# Altium integrated library Infineon_Transistor_&_Diode.IntLib: 376 symbols (part 10 of 10)
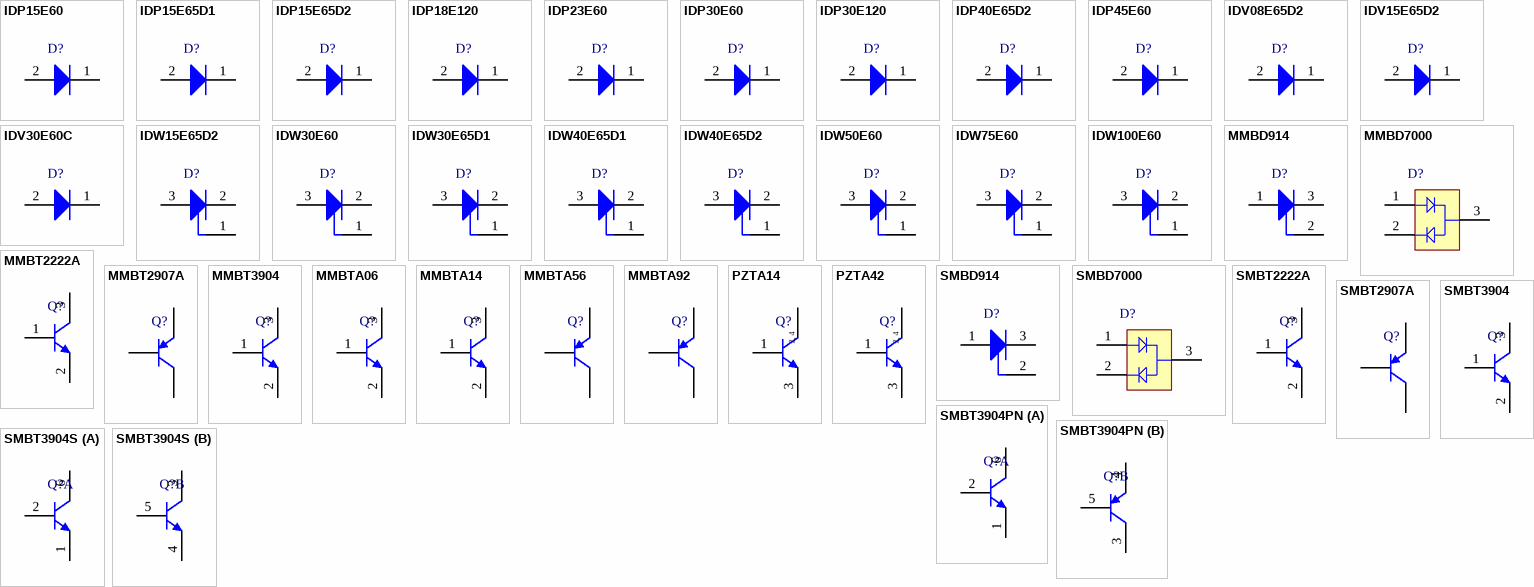
[diagram p19: symbols IDP15E60 to SMBT3904S]

## IDW15E65D2
designator D?
Rapid Switching Emitter Controlled Diode, -40 to 175 degC, PG-TO247-3-44, Tube, Green; Manufacturer: Infineon; PartNumber: IDW15E65D2; Green: TRUE; IF (typ): 15 A; IF,SM (max): 100 A; IR (max): 40 uA; Irrm (typ): 3.3 A; Ptot (max): 85.7 W; Qrr (typ): 0.07 nC; RthJC (max): 1.75 K/W; Trr (typ): 47 ns; VF (typ): 1.6 V; DatasheetVersion: Rev. 1.1; PackageVersion: Rev. 05, 07/2010; PackageReference: PG-TO-247-3-44_A; PackageDescription: 3-Pin Plastic (Green) Transistor Single Outline Package, Body 20.95 x 15.915 mm, Pitch 5.44 mm; Supplier 1: Newark; Supplier Part Number 1: 33X0393; Supplier 2: Farnell; Supplier Part Number 2: 2363270; Halogen-free: available; Packing: Tube; Mounting Technology: Through Hole; ComponentLink1Description: Manufacturer URL; ComponentLink1URL: http://www.infineon.com/; ComponentLink2Description: Datasheet; ComponentLink2URL: http://www.infineon.com/dgdl/DS_IDW15E65D2_1_1.pdf?folderId=db3a304314dca38901151224afae0c96&fileId=db3a30433d68e984013d691f02ea019f; ComponentLink3Description: Package Specification; ComponentLink3URL: http://www.infineon.com/dgdl/IDW50E60_Rev+1.2.pdf?folderId=db3a304314dca38901151224afae0c96&fileId=db3a30433cd75ebf013cf1ddd0fb255a
footprint INF-PG-TO-247-3-44_A (FM, 3-Leads, Body 15.915x5.02mm, Pitch 5.44mm)
pins: 1 NC, 2 K, 3 A

## IDW30E60
designator D?
Fast Switching Emitter Controlled Diode, -40 to 175 degC, PG-TO247-3-44, Tube, Green; Manufacturer: Infineon; PartNumber: IDW30E60; IF (max): 120 A; IF (typ): 75 A; IF,SM (max): 150 A; IR (max): 40 uA; Irrm (typ): 13 A; Ptot (max): 143 W; Qrr (typ): 1,200 nC; RthJC (max): 15 K/W; Trr (typ): 143 ns; VF (typ): 1.65 V; DatasheetVersion: Rev. 1.1; PackageVersion: Rev. 05, 07/2010; PackageReference: PG-TO-247-3-44_A; PackageDescription: 3-Pin Plastic (Green) Transistor Single Outline Package, Body 20.95 x 15.915 mm, Pitch 5.44 mm; Packing: Tube; Mounting Technology: Through Hole; ComponentLink1Description: Manufacturer URL; ComponentLink1URL: http://www.infineon.com/; ComponentLink2Description: Datasheet; ComponentLink2URL: http://www.infineon.com/dgdl/IDW30E60_1_11.pdf?folderId=db3a30431ddc9372011ed0010fda1bd3&fileId=db3a3043338c8ac80133abdec5bc2fe3; ComponentLink3Description: Package Specification; ComponentLink3URL: http://www.infineon.com/dgdl/IDW50E60_Rev+1.2.pdf?folderId=db3a304314dca38901151224afae0c96&fileId=db3a30433cd75ebf013cf1ddd0fb255a
footprint INF-PG-TO-247-3-44_A (FM, 3-Leads, Body 15.915x5.02mm, Pitch 5.44mm)
pins: 1 NC, 2 K, 3 A

## IDW30E65D1
designator D?
Rapid Switching Emitter Controlled Diode, -40 to 175 degC, PG-TO247-3, Tube, Green; Manufacturer: Infineon; PartNumber: IDW30E65D1; Green: TRUE; IF (typ): 30 A; IF,SM (max): 240 A; IR (max): 40 uA; Irrm (typ): 5.4 A; Ptot (max): 142 W; Qrr (typ): 0.45 uC; RthJC (max): 16 K/W; Trr (typ): 115 ns; VF (typ): 1.35 V; DatasheetVersion: Rev. 1.1; PackageVersion: Rev. 05, 07/2010; PackageReference: PG-TO-247-3-44_A; PackageDescription: 3-Pin Plastic (Green) Transistor Single Outline Package, Body 20.95 x 15.915 mm, Pitch 5.44 mm; Supplier 1: Newark; Supplier Part Number 1: 33X0394; Supplier 2: Farnell; Supplier Part Number 2: 2363271; Halogen-free: available; Packing: Tube; Mounting Technology: Through Hole; ComponentLink1Description: Manufacturer URL; ComponentLink1URL: http://www.infineon.com/; ComponentLink2Description: Datasheet; ComponentLink2URL: http://www.infineon.com/dgdl/DS_IDW30E65D1_1_1.pdf?folderId=db3a304314dca38901151224afae0c96&fileId=db3a30433d68e984013d6929d1da01cc; ComponentLink3Description: Package Specification; ComponentLink3URL: http://www.infineon.com/dgdl/IDW50E60_Rev+1.2.pdf?folderId=db3a304314dca38901151224afae0c96&fileId=db3a30433cd75ebf013cf1ddd0fb255a
footprint INF-PG-TO-247-3-44_A (FM, 3-Leads, Body 15.915x5.02mm, Pitch 5.44mm)
pins: 1 NC, 2 K, 3 A

## IDW40E65D1
designator D?
Rapid Switching Emitter Controlled Diode, -40 to 175 degC, PG-TO247-3, Tube, Green; Manufacturer: Infineon; PartNumber: IDW40E65D1; Green: TRUE; IF (typ): 40 A; IF,SM (max): 320 A; IR (max): 40 uA; Irrm (typ): 6.9 A; Ptot (max): 179 W; Qrr (typ): 0.49 uC; RthJC (max): 0.84 K/W; Trr (typ): 129 ns; VF (typ): 1.35 V; DatasheetVersion: Rev. 1.1; PackageVersion: Rev. 05, 07/2010; PackageReference: PG-TO-247-3-44_A; PackageDescription: 3-Pin Plastic (Green) Transistor Single Outline Package, Body 20.95 x 15.915 mm, Pitch 5.44 mm; Supplier 1: Newark; Supplier Part Number 1: 33X0395; Supplier 2: Farnell; Supplier Part Number 2: 2363272; Halogen-free: available; Packing: Tube; Mounting Technology: Through Hole; ComponentLink1Description: Manufacturer URL; ComponentLink1URL: http://www.infineon.com/; ComponentLink2Description: Datasheet; ComponentLink2URL: http://www.infineon.com/dgdl/IDW40E65D1_1_1.pdf?folderId=db3a304314dca38901151224afae0c96&fileId=db3a30433d68e984013d693991d30215; ComponentLink3Description: Package Specification; ComponentLink3URL: http://www.infineon.com/dgdl/IDW50E60_Rev+1.2.pdf?folderId=db3a304314dca38901151224afae0c96&fileId=db3a30433cd75ebf013cf1ddd0fb255a
footprint INF-PG-TO-247-3-44_A (FM, 3-Leads, Body 15.915x5.02mm, Pitch 5.44mm)
pins: 1 NC, 2 K, 3 A

## IDW40E65D2
designator D?
Rapid Switching Emitter Controlled Diode, -40 to 175 degC, PG-TO247-3, Tube, Green; Manufacturer: Infineon; PartNumber: IDW40E65D2; Green: TRUE; IF (typ): 40 A; IF,SM (max): 320 A; IR (max): 40 uA; Irrm (typ): 2.9 A; Ptot (max): 180 W; Qrr (typ): 0.13 uC; RthJC (max): 0.84 K/W; Trr (typ): 75 ns; VF (typ): 1.6 V; DatasheetVersion: Rev. 1.1; PackageVersion: Rev. 05, 07/2010; PackageReference: PG-TO-247-3-44_A; PackageDescription: 3-Pin Plastic (Green) Transistor Single Outline Package, Body 20.95 x 15.915 mm, Pitch 5.44 mm; Supplier 1: Newark; Supplier Part Number 1: 33X0396; Supplier 2: Farnell; Supplier Part Number 2: 2363273; Halogen-free: TRUE; Packing: Tube; Mounting Technology: Through Hole; ComponentLink1Description: Manufacturer URL; ComponentLink1URL: http://www.infineon.com/; ComponentLink2Description: Datasheet; ComponentLink2URL: http://www.infineon.com/dgdl/DS_IDW40E65D2_1_1.pdf?folderId=db3a30431ddc9372011ed0010fda1bd3&fileId=db3a30433d68e984013d8226e10d7547; ComponentLink3Description: Package Specification; ComponentLink3URL: http://www.infineon.com/dgdl/IDW50E60_Rev+1.2.pdf?folderId=db3a304314dca38901151224afae0c96&fileId=db3a30433cd75ebf013cf1ddd0fb255a
footprint INF-PG-TO-247-3-44_A (FM, 3-Leads, Body 15.915x5.02mm, Pitch 5.44mm)
pins: 1 NC, 2 K, 3 A

## IDW50E60
designator D?
Fast Switching Emitter Controlled Diode, -40 to 175 degC, PG-TO247-3-44, Tube, Green; Manufacturer: Infineon; PartNumber: IDW50E60; Green: TRUE; IF (max): 80 A; IF (typ): 50 A; IF,SM (max): 240 A; IR (max): 40 uA; Irrm (typ): 30 A; Ptot (max): 187 W; Qrr (typ): 1,500 nC; RthJC (max): 0.8 K/W; Trr (typ): 115 ns; VF (typ): 1.65 V; DatasheetVersion: Rev. 1.2; PackageVersion: Rev. 05, 07/2010; PackageReference: PG-TO-247-3-44_A; PackageDescription: 3-Pin Plastic (Green) Transistor Single Outline Package, Body 20.95 x 15.915 mm, Pitch 5.44 mm; Halogen-free: available; Packing: Tube; Mounting Technology: Through Hole; ComponentLink1Description: Manufacturer URL; ComponentLink1URL: http://www.infineon.com/; ComponentLink2Description: Datasheet; ComponentLink2URL: http://www.infineon.com/dgdl/IDW50E60_Rev+1.2.pdf?folderId=db3a304314dca38901151224afae0c96&fileId=db3a30433cd75ebf013cf1ddd0fb255a; ComponentLink3Description: Package Specification; ComponentLink3URL: http://www.infineon.com/dgdl/IDW50E60_Rev+1.2.pdf?folderId=db3a304314dca38901151224afae0c96&fileId=db3a30433cd75ebf013cf1ddd0fb255a
footprint INF-PG-TO-247-3-44_A (FM, 3-Leads, Body 15.915x5.02mm, Pitch 5.44mm)
pins: 1 NC, 2 K, 3 A

## IDW75E60
designator D?
Ultra Soft Diode, -55 to 175 degC, PG-TO247-3-44, Tube, Green; Manufacturer: Infineon; PartNumber: IDW75E60; Green: TRUE; IF (max): 120 A; IF (typ): 75 A; IF,SM (max): 220 A; IR (max): 40 uA; Ptot (max): 300 W; Qrr (typ): 2,400 nC 3,600 nC; RthJC (max): 0.5 K/W; Trr (typ): 121 ns; VF (typ): 1.65 V; DatasheetVersion: Rev. 2.1; PackageVersion: Rev. 05, 07/2010; PackageReference: PG-TO-247-3-44_A; PackageDescription: 3-Pin Plastic (Green) Transistor Single Outline Package, Body 20.95 x 15.915 mm, Pitch 5.44 mm; Supplier 1: Mouser; Supplier Part Number 1: 726-IDW75E60; Supplier 2: Newark; Supplier Part Number 2: 47W3450; Supplier 3: Farnell; Supplier Part Number 3: 2212801; Supplier 4: Digi-Key; Supplier Part Number 4: IDW75E60-ND; Halogen-free: available; Packing: Tube; Mounting Technology: Through Hole; ComponentLink1Description: Manufacturer URL; ComponentLink1URL: http://www.infineon.com/; ComponentLink2Description: Datasheet; ComponentLink2URL: http://www.infineon.com/dgdl/IDW75E60_V2_1.pdf?folderId=db3a304412b407950112b408e8c90004&fileId=db3a304412b407950112b438de4f6bbe; ComponentLink3Description: Package Specification; ComponentLink3URL: http://www.infineon.com/dgdl/IDW50E60_Rev+1.2.pdf?folderId=db3a304314dca38901151224afae0c96&fileId=db3a30433cd75ebf013cf1ddd0fb255a
footprint INF-PG-TO-247-3-44_A (FM, 3-Leads, Body 15.915x5.02mm, Pitch 5.44mm)
pins: 1 NC, 2 K, 3 A

## IDW100E60
designator D?
Fast Switching EmCon Diode, -55 to 175 degC, PG-TO247-3, Tube, Green; Manufacturer: Infineon; PartNumber: IDW100E60; Green: TRUE; IF (max): 150 A; IF (typ): 100 A; IF,SM (max): 400 A; IR (max): 40 uA; Ptot (max): 375 W; Qrr (typ): 3.6 nC; RthJC (max): 0.4 K/W; Trr (typ): 120 ns; VF (typ): 1.65 V; DatasheetVersion: Rev. 2.1; PackageVersion: Rev. 05, 07/2010; PackageReference: PG-TO-247-3-44_A; PackageDescription: 3-Pin Plastic (Green) Transistor Single Outline Package, Body 20.95 x 15.915 mm, Pitch 5.44 mm; Supplier 1: Mouser; Supplier Part Number 1: 726-IDW100E60; Supplier 2: Newark; Supplier Part Number 2: 47W3449; Supplier 3: Farnell; Supplier Part Number 3: 2212800; Supplier 4: Digi-Key; Supplier Part Number 4: IDW100E60-ND; Halogen-free: available; Packing: Tube; Mounting Technology: Through Hole; ComponentLink1Description: Manufacturer URL; ComponentLink1URL: http://www.infineon.com/; ComponentLink2Description: Datasheet; ComponentLink2URL: http://www.infineon.com/dgdl/IDW100E60_V2_1.pdf?folderId=db3a304412b407950112b408e8c90004&fileId=db3a304412b407950112b438da286bba; ComponentLink3Description: Package Specification; ComponentLink3URL: http://www.infineon.com/dgdl/IDW50E60_Rev+1.2.pdf?folderId=db3a304314dca38901151224afae0c96&fileId=db3a30433cd75ebf013cf1ddd0fb255a
footprint INF-PG-TO-247-3-44_A (FM, 3-Leads, Body 15.915x5.02mm, Pitch 5.44mm)
pins: 1 NC, 2 K, 3 A

## MMBD914
designator D?
Silicon Switching Diode, SOT23, Reel, Green; Manufacturer: Infineon; PartNumber: MMBD914; Configuration: Single; Green: TRUE; IF (max): 250 mA; IR (max): 100 nA; trr (max): 4 ns; VBR (min): 100 V; VF (max): 1.25 V; PackageVersion: Apr-08; PackageReference: SOT23; PackageDescription: 3-Pin Small Outline Transistor Package, 1.3 x 2.9 mm Body, 0.95 mm Pitch; Supplier 1: Arrow; Supplier Part Number 1: qMR7U2_eq23JCB9iwVhRmjLeiIlNHyfc18orTTBRNvA; VR (max): 100 V; Mounting Technology: Surface Mount; ComponentLink1Description: Manufacturer URL; ComponentLink1URL: http://www.infineon.com/; ComponentLink2Description: Datasheet; ComponentLink2URL: http://www.infineon.com/dgdl/smbd914_mmbd914series.pdf?folderId=db3a30431400ef6801141b5844e103ea&fileId=db3a30431400ef6801141c419bed0444; ComponentLink3Description: Package Specification; ComponentLink3URL: http://www.infineon.com/dgdl/SOT23-Package_Overview.pdf?folderId=db3a30431936bc4b0119532290053c66&fileId=db3a30431936bc4b0119533468123c85
footprint INF-SOT23_N (SOT23, 3-Leads, Body 2.9x1.3 mm, Pitch 0.95 mm, IPC Medium Density)
footprint INF-SOT23_L (SOT23, 3-Leads, Body 2.9x1.3 mm, Pitch 0.95 mm, IPC High Density)
footprint INF-SOT23_M (SOT23, 3-Leads, Body 2.9x1.3 mm, Pitch 0.95 mm, IPC Low Density)
pins: 1 A, 2 NC, 3 K

## MMBD7000
designator D?
Silicon Switching Diode Array, SOT23, Reel, Green; Manufacturer: Infineon; PartNumber: MMBD7000; Configuration: Dual; Green: TRUE; IF (max): 200 mA; IR (max): 500 nA; trr (max): 4 ns; VBR (min): 100 V; VF (max): 1.25 V; PackageVersion: Apr-08; PackageReference: SOT23; PackageDescription: 3-Pin Small Outline Transistor Package, 1.3 x 2.9 mm Body, 0.95 mm Pitch; VR (max): 100 V; Mounting Technology: Surface Mount; ComponentLink1Description: Manufacturer URL; ComponentLink1URL: http://www.infineon.com/; ComponentLink2Description: Datasheet; ComponentLink2URL: http://www.infineon.com/dgdl/smbd7000_mmbd7000series.pdf?folderId=db3a30431400ef6801141b5844e103ea&fileId=db3a30431400ef6801141c43b6f30446; ComponentLink3Description: Package Specification; ComponentLink3URL: http://www.infineon.com/dgdl/SOT23-Package_Overview.pdf?folderId=db3a30431936bc4b0119532290053c66&fileId=db3a30431936bc4b0119533468123c85
footprint INF-SOT23_N (SOT23, 3-Leads, Body 2.9x1.3 mm, Pitch 0.95 mm, IPC Medium Density)
footprint INF-SOT23_L (SOT23, 3-Leads, Body 2.9x1.3 mm, Pitch 0.95 mm, IPC High Density)
footprint INF-SOT23_M (SOT23, 3-Leads, Body 2.9x1.3 mm, Pitch 0.95 mm, IPC Low Density)
pins: 1 A1, 2 K2, 3 C

## MMBT2222A
designator Q?
NPN Silicon Switching Transistor, 40 V VCEO, 600 mA IC, SOT23, Reel, Green; Manufacturer: Infineon; PartNumber: MMBT2222A; Green: TRUE; IC: 150 mA; IC (max): 600 mA; ICBO (max): 10 nA; VCBO (max): 75 V; VCE: 10 V; VCEO (max): 40 V; VEBO (max): 6 V; PackageVersion: Apr-08; PackageReference: SOT23; PackageDescription: 3-Pin Small Outline Transistor Package, 1.3 x 2.9 mm Body, 0.95 mm Pitch; Packing: Reel; Polarity: NPN; VCE (max): 10 V; Mounting Technology: Surface Mount; ComponentLink1Description: Manufacturer URL; ComponentLink1URL: http://www.infineon.com/; ComponentLink2Description: Datasheet; ComponentLink2URL: http://www.infineon.com/dgdl/smbt2222a_mmbt2222a.pdf?folderId=db3a30431441fb5d011445fab851018e&fileId=db3a30431441fb5d011445fbaff0018f; ComponentLink3Description: Package Specification; ComponentLink3URL: http://www.infineon.com/dgdl/SOT23-Package_Overview.pdf?folderId=db3a30431936bc4b0119532290053c66&fileId=db3a30431936bc4b0119533468123c85
footprint INF-SOT23_N (SOT23, 3-Leads, Body 2.9x1.3 mm, Pitch 0.95 mm, IPC Medium Density)
footprint INF-SOT23_L (SOT23, 3-Leads, Body 2.9x1.3 mm, Pitch 0.95 mm, IPC High Density)
footprint INF-SOT23_M (SOT23, 3-Leads, Body 2.9x1.3 mm, Pitch 0.95 mm, IPC Low Density)
pins: 1 B, 2 E, 3 C

## MMBT2907A
designator Q?
PNP Silicon Switching Transistor, 60 V VCEO, 600 mA IC, SOT23, Reel, Green; Manufacturer: Infineon; PartNumber: MMBT2907A; Green: TRUE; IC: 150 mA; IC (max): 600 mA; ICBO (max): 10 nA; VCBO (max): 60 V; VCE: 10 V; VEBO (max): 5 V; PackageVersion: Apr-08; PackageReference: SOT23; PackageDescription: 3-Pin Small Outline Transistor Package, 1.3 x 2.9 mm Body, 0.95 mm Pitch; Packing: Reel; Polarity: PNP; VCE (max): 10 V; VCEO (max): 60 V; Mounting Technology: Surface Mount; ComponentLink1Description: Manufacturer URL; ComponentLink1URL: http://www.infineon.com/; ComponentLink2Description: Datasheet; ComponentLink2URL: http://www.infineon.com/dgdl/smbt2907a.pdf?folderId=db3a30431441fb5d011445fab851018e&fileId=db3a30431441fb5d011445fe084a0190; ComponentLink3Description: Package Specification; ComponentLink3URL: http://www.infineon.com/dgdl/SOT23-Package_Overview.pdf?folderId=db3a30431936bc4b0119532290053c66&fileId=db3a30431936bc4b0119533468123c85
footprint INF-SOT23_N (SOT23, 3-Leads, Body 2.9x1.3 mm, Pitch 0.95 mm, IPC Medium Density)
footprint INF-SOT23_L (SOT23, 3-Leads, Body 2.9x1.3 mm, Pitch 0.95 mm, IPC High Density)
footprint INF-SOT23_M (SOT23, 3-Leads, Body 2.9x1.3 mm, Pitch 0.95 mm, IPC Low Density)
pins: 1 B, 2 E, 3 C

## MMBT3904
designator Q?
NPN Silicon Switching Transistor, 40 V VCEO, 200 mA IC, SOT23, Reel, Green; Manufacturer: Infineon; PartNumber: MMBT3904; Green: TRUE; IC: 10 mA; IC (max): 200 mA; ICBO (max): 50 nA; VCBO (max): 60 V; VCE: 1 V; VCEO (max): 40 V; VEBO (max): 6 V; PackageVersion: Apr-08; PackageReference: SOT23; PackageDescription: 3-Pin Small Outline Transistor Package, 1.3 x 2.9 mm Body, 0.95 mm Pitch; Packing: Reel; Polarity: NPN; VCE (max): 1 V; Mounting Technology: Surface Mount; ComponentLink1Description: Manufacturer URL; ComponentLink1URL: http://www.infineon.com/; ComponentLink2Description: Datasheet; ComponentLink2URL: http://www.infineon.com/dgdl/smbt3904series_mmbt3904.pdf?folderId=db3a30431441fb5d011445fab851018e&fileId=db3a30431441fb5d0114460005c10191; ComponentLink3Description: Package Specification; ComponentLink3URL: http://www.infineon.com/dgdl/SOT23-Package_Overview.pdf?folderId=db3a30431936bc4b0119532290053c66&fileId=db3a30431936bc4b0119533468123c85
footprint INF-SOT23_N (SOT23, 3-Leads, Body 2.9x1.3 mm, Pitch 0.95 mm, IPC Medium Density)
footprint INF-SOT23_L (SOT23, 3-Leads, Body 2.9x1.3 mm, Pitch 0.95 mm, IPC High Density)
footprint INF-SOT23_M (SOT23, 3-Leads, Body 2.9x1.3 mm, Pitch 0.95 mm, IPC Low Density)
pins: 1 B, 2 E, 3 C

## MMBTA06
designator Q?
NPN Silicon AF Transistor, 80 V VCEO, 500 mA IC, SOT23, Reel, Green; Manufacturer: Infineon; PartNumber: MMBTA06; fT (typ): 100 MHz; Green: TRUE; IBM (max): 200 mA; IC: 100 mA; IC (max): 500 mA; ICBO (max): 100 nA; ICM (max): 1,000 mA; Ptot (max): 330 mW; VCBO (max): 80 V; VCE: 1 V; VEBO (max): 4 V; PackageVersion: Apr-08; PackageReference: SOT23; PackageDescription: 3-Pin Small Outline Transistor Package, 1.3 x 2.9 mm Body, 0.95 mm Pitch; Packing: Reel; Polarity: NPN; VCEO (max): 80 V; Mounting Technology: Surface Mount; ComponentLink1Description: Manufacturer URL; ComponentLink1URL: http://www.infineon.com/; ComponentLink2Description: Datasheet; ComponentLink2URL: http://www.infineon.com/dgdl/smbta06_mmbta06.pdf?folderId=db3a304314dca389011545f4eb561884&fileId=db3a304314dca3890115478ecca71a2d; ComponentLink3Description: Package Specification; ComponentLink3URL: http://www.infineon.com/dgdl/SOT23-Package_Overview.pdf?folderId=db3a30431936bc4b0119532290053c66&fileId=db3a30431936bc4b0119533468123c85
footprint INF-SOT23_N (SOT23, 3-Leads, Body 2.9x1.3 mm, Pitch 0.95 mm, IPC Medium Density)
footprint INF-SOT23_L (SOT23, 3-Leads, Body 2.9x1.3 mm, Pitch 0.95 mm, IPC High Density)
footprint INF-SOT23_M (SOT23, 3-Leads, Body 2.9x1.3 mm, Pitch 0.95 mm, IPC Low Density)
pins: 1 B, 2 E, 3 C

## MMBTA14
designator Q?
NPN Silicon Darlington Transistor, 30 V VCEO, 300 mA IC, SOT23, Reel, Green; Manufacturer: Infineon; PartNumber: MMBTA14; fT (typ): 125 MHz; Green: TRUE; hFE (min): 10000; IC: 100 mA; IC (max): 300 mA; ICBO (max): 10 uA; ICM (max): 500 mA; VCBO (max): 30 V; VCE: 5 V; VEBO (max): 10 V; PackageVersion: Apr-08; PackageReference: SOT23; PackageDescription: 3-Pin Small Outline Transistor Package, 1.3 x 2.9 mm Body, 0.95 mm Pitch; Packing: Reel; Polarity: NPN; VCEO (max): 30 V; Mounting Technology: Surface Mount; ComponentLink1Description: Manufacturer URL; ComponentLink1URL: http://www.infineon.com/; ComponentLink2Description: Datasheet; ComponentLink2URL: http://www.infineon.com/dgdl/smbta14_mmbta14.pdf?folderId=db3a30431441fb5d011445c30f210183&fileId=db3a30431441fb5d011445ef0201018c; ComponentLink3Description: Package Specification; ComponentLink3URL: http://www.infineon.com/dgdl/SOT23-Package_Overview.pdf?folderId=db3a30431936bc4b0119532290053c66&fileId=db3a30431936bc4b0119533468123c85
footprint INF-SOT23_N (SOT23, 3-Leads, Body 2.9x1.3 mm, Pitch 0.95 mm, IPC Medium Density)
footprint INF-SOT23_L (SOT23, 3-Leads, Body 2.9x1.3 mm, Pitch 0.95 mm, IPC High Density)
footprint INF-SOT23_M (SOT23, 3-Leads, Body 2.9x1.3 mm, Pitch 0.95 mm, IPC Low Density)
pins: 1 B, 2 E, 3 C

## MMBTA56
designator Q?
PNP Silicon AF Transistor, 80 V VCEO, 500 mA IC, SOT23, Reel, Green; Manufacturer: Infineon; PartNumber: MMBTA56; fT (typ): 100 MHz; Green: TRUE; IBM (max): 200 mA; IC: 100 mA; IC (max): 500 mA; ICBO (max): 100 nA; ICM (max): 1,000 mA; Ptot (max): 330 mW; VCBO (max): 80 V; VCE: 1 V; VEBO (max): 4 V; PackageVersion: Apr-08; PackageReference: SOT23; PackageDescription: 3-Pin Small Outline Transistor Package, 1.3 x 2.9 mm Body, 0.95 mm Pitch; Packing: Reel; Polarity: PNP; VCEO (max): 80 V; Mounting Technology: Surface Mount; ComponentLink1Description: Manufacturer URL; ComponentLink1URL: http://www.infineon.com/; ComponentLink2Description: Datasheet; ComponentLink2URL: http://www.infineon.com/dgdl/smbta56_mmbta56.pdf?folderId=db3a304314dca389011545f4eb561884&fileId=db3a304314dca38901155fad71671d8c; ComponentLink3Description: Package Specification; ComponentLink3URL: http://www.infineon.com/dgdl/SOT23-Package_Overview.pdf?folderId=db3a30431936bc4b0119532290053c66&fileId=db3a30431936bc4b0119533468123c85
footprint INF-SOT23_N (SOT23, 3-Leads, Body 2.9x1.3 mm, Pitch 0.95 mm, IPC Medium Density)
footprint INF-SOT23_L (SOT23, 3-Leads, Body 2.9x1.3 mm, Pitch 0.95 mm, IPC High Density)
footprint INF-SOT23_M (SOT23, 3-Leads, Body 2.9x1.3 mm, Pitch 0.95 mm, IPC Low Density)
pins: 1 B, 2 E, 3 C

## MMBTA92
designator Q?
PNP Silicon High-Voltage Transistor, 300 V VCEO, 500 mA IC, SOT23, Reel, Green; Manufacturer: Infineon; PartNumber: MMBTA92; fT (typ): 50 MHz; Green: TRUE; hFE (min): 40; IC: 30 mA; IC (max): 500 mA; ICBO (max): 100 nA; VCBO (max): 300 V; VCE: 10 V; VEBO (max): 5 V; PackageVersion: Apr-08; PackageReference: SOT23; PackageDescription: 3-Pin Small Outline Transistor Package, 1.3 x 2.9 mm Body, 0.95 mm Pitch; Packing: Reel; Polarity: PNP; VCE (max): 10 V; VCEO (max): 300 V; Mounting Technology: Surface Mount; ComponentLink1Description: Manufacturer URL; ComponentLink1URL: http://www.infineon.com/; ComponentLink2Description: Datasheet; ComponentLink2URL: http://www.infineon.com/dgdl/smbta92-mmbta92.pdf?folderId=db3a30431441fb5d011449af3ad90232&fileId=db3a30431441fb5d011449c5cd03023b; ComponentLink3Description: Package Specification; ComponentLink3URL: http://www.infineon.com/dgdl/SOT23-Package_Overview.pdf?folderId=db3a30431936bc4b0119532290053c66&fileId=db3a30431936bc4b0119533468123c85
footprint INF-SOT23_N (SOT23, 3-Leads, Body 2.9x1.3 mm, Pitch 0.95 mm, IPC Medium Density)
footprint INF-SOT23_L (SOT23, 3-Leads, Body 2.9x1.3 mm, Pitch 0.95 mm, IPC High Density)
footprint INF-SOT23_M (SOT23, 3-Leads, Body 2.9x1.3 mm, Pitch 0.95 mm, IPC Low Density)
pins: 1 B, 2 E, 3 C

## PZTA14
designator Q?
NPN Silicon Darlington Transistor, 30 V VCEO, 300 mA IC, SOT223, Reel, Green; Manufacturer: Infineon; PartNumber: PZTA14; fT (typ): 125 MHz; Green: TRUE; hFE (min): 10000; IC: 100 mA; IC (max): 300 mA; ICBO (max): 10 uA; ICM (max): 500 mA; VCBO (max): 30 V; VCE: 5 V; VEBO (max): 10 V; PackageVersion: Apr-08; PackageReference: SOT223 (SC-73); PackageDescription: 4-Pin Small Outline Transistor Package, 6.5 x 3.5 mm Body, 2.3 mm Pitch; Packing: Reel; Polarity: NPN; VCEO (max): 30 V; Mounting Technology: Surface Mount; ComponentLink1Description: Manufacturer URL; ComponentLink1URL: http://www.infineon.com/; ComponentLink2Description: Datasheet; ComponentLink2URL: http://www.infineon.com/dgdl/pzta14.pdf?folderId=db3a30431441fb5d011445c30f210183&fileId=db3a30431441fb5d011445e89099018b; ComponentLink3Description: Package Specification; ComponentLink3URL: http://www.infineon.com/dgdl/SOT223-Package_Overview.pdf?folderId=db3a30431936bc4b0119530470b03c3d&fileId=db3a30431936bc4b0119531d40b93c5c
footprint INF-SOT223_SC-73_N (SOT223, 4-Leads, Body 6.5x3.5mm, Pitch 2.3mm, IPC Medium Density)
footprint INF-SOT223_SC-73_L (SOT223, 4-Leads, Body 6.5x3.5mm, Pitch 2.3mm, IPC High Density)
footprint INF-SOT223_SC-73_M (SOT223, 4-Leads, Body 6.5x3.5mm, Pitch 2.3mm, IPC Low Density)
pins: 1 B, 2 C, 3 E, 4 C
text: 2, 4

## PZTA42
designator Q?
NPN Silicon High-Voltage Transistor, 300 V VCEO, 500 mA IC, SOT223, Reel, Green; Manufacturer: Infineon; PartNumber: PZTA42; fT (typ): 70 MHz; Green: TRUE; hFE (min): 25; IC: 500 mA; ICBO (max): 100 nA; VCBO (max): 300 V; VCE: 10 V; VEBO (max): 6 V; PackageVersion: Apr-08; PackageReference: SOT223 (SC-73); PackageDescription: 4-Pin Small Outline Transistor Package, 6.5 x 3.5 mm Body, 2.3 mm Pitch; IC (max): 500 mA; Packing: Reel; Polarity: NPN; VCEO (max): 300 V; Mounting Technology: Surface Mount; ComponentLink1Description: Manufacturer URL; ComponentLink1URL: http://www.infineon.com/; ComponentLink2Description: Datasheet; ComponentLink2URL: http://www.infineon.com/dgdl/pzta42.pdf?folderId=db3a30431441fb5d011449af3ad90232&fileId=db3a304314dca38901156a63271f218b; ComponentLink3Description: Package Specification; ComponentLink3URL: http://www.infineon.com/dgdl/SOT223-Package_Overview.pdf?folderId=db3a30431936bc4b0119530470b03c3d&fileId=db3a30431936bc4b0119531d40b93c5c
footprint INF-SOT223_SC-73_N (SOT223, 4-Leads, Body 6.5x3.5mm, Pitch 2.3mm, IPC Medium Density)
footprint INF-SOT223_SC-73_L (SOT223, 4-Leads, Body 6.5x3.5mm, Pitch 2.3mm, IPC High Density)
footprint INF-SOT223_SC-73_M (SOT223, 4-Leads, Body 6.5x3.5mm, Pitch 2.3mm, IPC Low Density)
pins: 1 B, 2 C, 3 E, 4 C
text: 2, 4

## SMBD914
designator D?
Silicon Switching Diode, SOT23, Reel, Green; Manufacturer: Infineon; PartNumber: SMBD914; Configuration: Single; Green: TRUE; IF (max): 250 mA; IR (max): 100 nA; trr (max): 4 ns; VBR (min): 100 V; VF (max): 1.25 V; PackageVersion: Apr-08; PackageReference: SOT23; PackageDescription: 3-Pin Small Outline Transistor Package, 1.3 x 2.9 mm Body, 0.95 mm Pitch; VR (max): 100 V; Mounting Technology: Surface Mount; ComponentLink1Description: Manufacturer URL; ComponentLink1URL: http://www.infineon.com/; ComponentLink2Description: Datasheet; ComponentLink2URL: http://www.infineon.com/dgdl/smbd914_mmbd914series.pdf?folderId=db3a30431400ef6801141b5844e103ea&fileId=db3a30431400ef6801141c419bed0444; ComponentLink3Description: Package Specification; ComponentLink3URL: http://www.infineon.com/dgdl/SOT23-Package_Overview.pdf?folderId=db3a30431936bc4b0119532290053c66&fileId=db3a30431936bc4b0119533468123c85
footprint INF-SOT23_N (SOT23, 3-Leads, Body 2.9x1.3 mm, Pitch 0.95 mm, IPC Medium Density)
footprint INF-SOT23_L (SOT23, 3-Leads, Body 2.9x1.3 mm, Pitch 0.95 mm, IPC High Density)
footprint INF-SOT23_M (SOT23, 3-Leads, Body 2.9x1.3 mm, Pitch 0.95 mm, IPC Low Density)
pins: 1 A, 2 NC, 3 K

## SMBD7000
designator D?
Silicon Switching Diode Array, SOT23, Reel, Green; Manufacturer: Infineon; PartNumber: SMBD7000; Configuration: Dual; Green: TRUE; IF (max): 200 mA; IR (max): 500 nA; trr (max): 4 ns; VBR (min): 100 V; VF (max): 1.25 V; PackageVersion: Apr-08; PackageReference: SOT23; PackageDescription: 3-Pin Small Outline Transistor Package, 1.3 x 2.9 mm Body, 0.95 mm Pitch; VR (max): 100 V; Mounting Technology: Surface Mount; ComponentLink1Description: Manufacturer URL; ComponentLink1URL: http://www.infineon.com/; ComponentLink2Description: Datasheet; ComponentLink2URL: http://www.infineon.com/dgdl/smbd7000_mmbd7000series.pdf?folderId=db3a30431400ef6801141b5844e103ea&fileId=db3a30431400ef6801141c43b6f30446; ComponentLink3Description: Package Specification; ComponentLink3URL: http://www.infineon.com/dgdl/SOT23-Package_Overview.pdf?folderId=db3a30431936bc4b0119532290053c66&fileId=db3a30431936bc4b0119533468123c85
footprint INF-SOT23_N (SOT23, 3-Leads, Body 2.9x1.3 mm, Pitch 0.95 mm, IPC Medium Density)
footprint INF-SOT23_L (SOT23, 3-Leads, Body 2.9x1.3 mm, Pitch 0.95 mm, IPC High Density)
footprint INF-SOT23_M (SOT23, 3-Leads, Body 2.9x1.3 mm, Pitch 0.95 mm, IPC Low Density)
pins: 1 A1, 2 K2, 3 C

## SMBT2222A
designator Q?
NPN Silicon Switching Transistor, 40 V VCEO, 600 mA IC, SOT23, Reel, Green; Manufacturer: Infineon; PartNumber: SMBT2222A; Green: TRUE; IC: 150 mA; IC (max): 600 mA; ICBO (max): 10 nA; VCBO (max): 75 V; VCE: 10 V; VCEO (max): 40 V; VEBO (max): 6 V; PackageVersion: Apr-08; PackageReference: SOT23; PackageDescription: 3-Pin Small Outline Transistor Package, 1.3 x 2.9 mm Body, 0.95 mm Pitch; Supplier 1: Newark; Supplier Part Number 1: 97K9947; Supplier 2: Farnell; Supplier Part Number 2: 1056537RL; Supplier 3: Farnell; Supplier Part Number 3: 1056537; Packing: Reel; Polarity: NPN; VCE (max): 10 V; Mounting Technology: Surface Mount; ComponentLink1Description: Manufacturer URL; ComponentLink1URL: http://www.infineon.com/; ComponentLink2Description: Datasheet; ComponentLink2URL: http://www.infineon.com/dgdl/smbt2222a_mmbt2222a.pdf?folderId=db3a30431441fb5d011445fab851018e&fileId=db3a30431441fb5d011445fbaff0018f; ComponentLink3Description: Package Specification; ComponentLink3URL: http://www.infineon.com/dgdl/SOT23-Package_Overview.pdf?folderId=db3a30431936bc4b0119532290053c66&fileId=db3a30431936bc4b0119533468123c85
footprint INF-SOT23_N (SOT23, 3-Leads, Body 2.9x1.3 mm, Pitch 0.95 mm, IPC Medium Density)
footprint INF-SOT23_L (SOT23, 3-Leads, Body 2.9x1.3 mm, Pitch 0.95 mm, IPC High Density)
footprint INF-SOT23_M (SOT23, 3-Leads, Body 2.9x1.3 mm, Pitch 0.95 mm, IPC Low Density)
pins: 1 B, 2 E, 3 C

## SMBT2907A
designator Q?
PNP Silicon Switching Transistor, 60 V VCEO, 600 mA IC, SOT23, Reel, Green; Manufacturer: Infineon; PartNumber: SMBT2907A; Green: TRUE; IC: 150 mA; IC (max): 600 mA; ICBO (max): 10 nA; VCBO (max): 60 V; VCE: 10 V; VEBO (max): 5 V; PackageVersion: Apr-08; PackageReference: SOT23; PackageDescription: 3-Pin Small Outline Transistor Package, 1.3 x 2.9 mm Body, 0.95 mm Pitch; Supplier 1: Newark; Supplier Part Number 1: 97K9948; Supplier 2: Farnell; Supplier Part Number 2: 1056538; Supplier 3: Farnell; Supplier Part Number 3: 1056538RL; Packing: Reel; Polarity: PNP; VCE (max): 10 V; VCEO (max): 60 V; Mounting Technology: Surface Mount; ComponentLink1Description: Manufacturer URL; ComponentLink1URL: http://www.infineon.com/; ComponentLink2Description: Datasheet; ComponentLink2URL: http://www.infineon.com/dgdl/smbt2907a.pdf?folderId=db3a30431441fb5d011445fab851018e&fileId=db3a30431441fb5d011445fe084a0190; ComponentLink3Description: Package Specification; ComponentLink3URL: http://www.infineon.com/dgdl/SOT23-Package_Overview.pdf?folderId=db3a30431936bc4b0119532290053c66&fileId=db3a30431936bc4b0119533468123c85
footprint INF-SOT23_N (SOT23, 3-Leads, Body 2.9x1.3 mm, Pitch 0.95 mm, IPC Medium Density)
footprint INF-SOT23_L (SOT23, 3-Leads, Body 2.9x1.3 mm, Pitch 0.95 mm, IPC High Density)
footprint INF-SOT23_M (SOT23, 3-Leads, Body 2.9x1.3 mm, Pitch 0.95 mm, IPC Low Density)
pins: 1 B, 2 E, 3 C

## SMBT3904
designator Q?
NPN Silicon Switching Transistor, 40 V VCEO, 200 mA IC, SOT23, Reel, Green; Manufacturer: Infineon; PartNumber: SMBT3904; Green: TRUE; IC: 10 mA; IC (max): 200 mA; ICBO (max): 50 nA; VCBO (max): 60 V; VCE: 1 V; VCEO (max): 40 V; VEBO (max): 6 V; PackageVersion: Apr-08; PackageReference: SOT23; PackageDescription: 3-Pin Small Outline Transistor Package, 1.3 x 2.9 mm Body, 0.95 mm Pitch; Supplier 1: Newark; Supplier Part Number 1: 97K9949; Supplier 2: Farnell; Supplier Part Number 2: 1056539; Supplier 3: Farnell; Supplier Part Number 3: 1056539RL; Packing: Reel; Polarity: NPN; VCE (max): 1 V; Mounting Technology: Surface Mount; ComponentLink1Description: Manufacturer URL; ComponentLink1URL: http://www.infineon.com/; ComponentLink2Description: Datasheet; ComponentLink2URL: http://www.infineon.com/dgdl/smbt3904series_mmbt3904.pdf?folderId=db3a30431441fb5d011445fab851018e&fileId=db3a30431441fb5d0114460005c10191; ComponentLink3Description: Package Specification; ComponentLink3URL: http://www.infineon.com/dgdl/SOT23-Package_Overview.pdf?folderId=db3a30431936bc4b0119532290053c66&fileId=db3a30431936bc4b0119533468123c85
footprint INF-SOT23_N (SOT23, 3-Leads, Body 2.9x1.3 mm, Pitch 0.95 mm, IPC Medium Density)
footprint INF-SOT23_L (SOT23, 3-Leads, Body 2.9x1.3 mm, Pitch 0.95 mm, IPC High Density)
footprint INF-SOT23_M (SOT23, 3-Leads, Body 2.9x1.3 mm, Pitch 0.95 mm, IPC Low Density)
pins: 1 B, 2 E, 3 C

## SMBT3904PN
designator Q?
NPN / PNP Silicon Switching Transistor Array, 40 V VCEO, 200 mA IC, SOT363, Reel, Green; Manufacturer: Infineon; PartNumber: SMBT3904PN; Green: TRUE; IC: 10 mA; IC (max): 200 mA; ICBO (max): 50 nA; VCBO (max): 40 V; VCE: 1 V; VEBO (max): 5 V; PackageReference: SOT363; PackageDescription: 6-Pin Small Outline Transistor Package, 1.25 x 2 mm Body; Supplier 1: Mouser; Supplier Part Number 1: N/A; Halogen-free: TRUE; Packing: Reel; Polarity: NPN/PNP; VCE (max): 1 V; VCEO (max): 40 V; Mounting Technology: Surface Mount; ComponentLink1Description: Manufacturer URL; ComponentLink1URL: http://www.infineon.com/; ComponentLink2Description: Datasheet; ComponentLink2URL: http://www.infineon.com/dgdl/smbt3904pn_smbt3904upn.pdf?folderId=db3a30431441fb5d011445fab851018e&fileId=db3a30431441fb5d0114460a24930193; ComponentLink3Description: Package Specification; ComponentLink3URL: http://www.infineon.com/dgdl/SOT363-Package_Overview.pdf?folderId=db3a30431936bc4b01195360bd8f3cdc&fileId=db3a30431936bc4b0119536b62bf3cf5
footprint INF-SOT363_V (SOT23, 6-Leads, Body 2x1.25 mm, Pitch 0.65 mm)
part A pins: 1 E1, 2 B1, 6 C1
part B pins: 3 C2, 4 E2, 5 B2

## SMBT3904S
designator Q?
NPN Silicon Switching Transistor, 40 V VCEO, 200 mA IC, SOT363, Reel, Green; Manufacturer: Infineon; PartNumber: SMBT3904S; Green: TRUE; IC: 10 mA; IC (max): 200 mA; ICBO (max): 50 nA; VCBO (max): 60 V; VCE: 1 V; VCEO (max): 40 V; VEBO (max): 6 V; PackageReference: SOT363; PackageDescription: 6-Pin Small Outline Transistor Package, 1.25 x 2 mm Body; Supplier 1: Mouser; Supplier Part Number 1: N/A; Halogen-free: TRUE; Packing: Reel; Polarity: NPN; Mounting Technology: Surface Mount; ComponentLink1Description: Manufacturer URL; ComponentLink1URL: http://www.infineon.com/; ComponentLink2Description: Datasheet; ComponentLink2URL: http://www.infineon.com/dgdl/smbt3904series_mmbt3904.pdf?folderId=db3a30431441fb5d011445fab851018e&fileId=db3a30431441fb5d0114460005c10191; ComponentLink3Description: Package Specification; ComponentLink3URL: http://www.infineon.com/dgdl/SOT363-Package_Overview.pdf?folderId=db3a30431936bc4b01195360bd8f3cdc&fileId=db3a30431936bc4b0119536b62bf3cf5
footprint INF-SOT363_V (SOT23, 6-Leads, Body 2x1.25 mm, Pitch 0.65 mm)
part A pins: 1 E1, 2 B1, 6 C1
part B pins: 3 C2, 4 E2, 5 B2

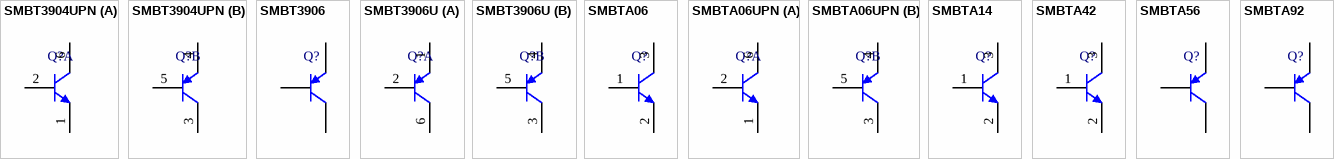
[diagram p10: symbols SMBT3904UPN to SMBTA92]

## SMBT3904UPN
designator Q?
NPN / PNP Silicon Switching Transistor Array, 40 V VCEO, 200 mA IC, SC74, Reel, Green; Manufacturer: Infineon; PartNumber: SMBT3904UPN; Green: TRUE; IC: 10 mA; IC (max): 200 mA; ICBO (max): 50 nA; VCBO (max): 40 V; VCE: 1 V; VEBO (max): 5 V; PackageVersion: Apr-08; PackageReference: SC74; PackageDescription: 6-Pin Semiconductor Package, 2.9 x 1.6 mm Body, 0.95 mm Pitch; Supplier 1: Mouser; Supplier Part Number 1: N/A; Packing: Reel; Polarity: NPN/PNP; VCEO (max): 40 V; Mounting Technology: Surface Mount; ComponentLink1Description: Manufacturer URL; ComponentLink1URL: http://www.infineon.com/; ComponentLink2Description: Datasheet; ComponentLink2URL: http://www.infineon.com/dgdl/smbt3904pn_smbt3904upn.pdf?folderId=db3a30431441fb5d011445fab851018e&fileId=db3a30431441fb5d0114460a24930193; ComponentLink3Description: Package Specification; ComponentLink3URL: http://www.infineon.com/dgdl/SC74-Package_Overview.pdf?folderId=db3a30431936bc4b01194dec844f40d9&fileId=db3a30431936bc4b01195175d46e3ab3
footprint INF-SC74_N (SOT23, 6-Leads, Body 2.9x1.6mm, Pitch 0.95mm, IPC Medium Density)
footprint INF-SC74_L (SOT23, 6-Leads, Body 2.9x1.6mm, Pitch 0.95mm, IPC High Density)
footprint INF-SC74_M (SOT23, 6-Leads, Body 2.9x1.6mm, Pitch 0.95mm, IPC Low Density)
part A pins: 1 E1, 2 B1, 6 C1
part B pins: 3 C2, 4 E2, 5 B2

## SMBT3906
designator Q?
PNP Silicon Switching Transistor, 40 V VCEO, 200 mA IC, SOT23, Reel, Green; Manufacturer: Infineon; PartNumber: SMBT3906; Green: TRUE; IC: 10 mA; IC (max): 200 mA; ICBO (max): 50 nA; VCBO (max): 40 V; VCE: 1 V; VEBO (max): 6 V; PackageVersion: Apr-08; PackageReference: SOT23; PackageDescription: 3-Pin Small Outline Transistor Package, 1.3 x 2.9 mm Body, 0.95 mm Pitch; Supplier 1: Mouser; Supplier Part Number 1: N/A; Supplier 2: Farnell; Supplier Part Number 2: 1056540RL; Packing: Reel; Polarity: PNP; VCE (max): 1 V; VCEO (max): 40 V; Mounting Technology: Surface Mount; ComponentLink1Description: Manufacturer URL; ComponentLink1URL: http://www.infineon.com/; ComponentLink2Description: Datasheet; ComponentLink2URL: http://www.infineon.com/dgdl/smbt3906_mmbt3906series.pdf?folderId=db3a30431441fb5d011445fab851018e&fileId=db3a30431441fb5d01144604610f0192; ComponentLink3Description: Package Specification; ComponentLink3URL: http://www.infineon.com/dgdl/SOT23-Package_Overview.pdf?folderId=db3a30431936bc4b0119532290053c66&fileId=db3a30431936bc4b0119533468123c85
footprint INF-SOT23_N (SOT23, 3-Leads, Body 2.9x1.3 mm, Pitch 0.95 mm, IPC Medium Density)
footprint INF-SOT23_L (SOT23, 3-Leads, Body 2.9x1.3 mm, Pitch 0.95 mm, IPC High Density)
footprint INF-SOT23_M (SOT23, 3-Leads, Body 2.9x1.3 mm, Pitch 0.95 mm, IPC Low Density)
pins: 1 B, 2 E, 3 C

## SMBT3906U
designator Q?
PNP Silicon Switching Transistor, 40 V VCEO, 200 mA IC, SC74, Reel, Green; Manufacturer: Infineon; PartNumber: SMBT3906U; Green: TRUE; IC: 10 mA; IC (max): 200 mA; ICBO (max): 50 nA; VCBO (max): 40 V; VCE: 1 V; VEBO (max): 6 V; PackageVersion: Apr-08; PackageReference: SC74; PackageDescription: 6-Pin Semiconductor Package, 2.9 x 1.6 mm Body, 0.95 mm Pitch; Supplier 1: Mouser; Supplier Part Number 1: N/A; Packing: Reel; Polarity: PNP; VCEO (max): 40 V; Mounting Technology: Surface Mount; ComponentLink1Description: Manufacturer URL; ComponentLink1URL: http://www.infineon.com/; ComponentLink2Description: Datasheet; ComponentLink2URL: http://www.infineon.com/dgdl/smbt3906_mmbt3906series.pdf?folderId=db3a30431441fb5d011445fab851018e&fileId=db3a30431441fb5d01144604610f0192; ComponentLink3Description: Package Specification; ComponentLink3URL: http://www.infineon.com/dgdl/SC74-Package_Overview.pdf?folderId=db3a30431936bc4b01194dec844f40d9&fileId=db3a30431936bc4b01195175d46e3ab3
footprint INF-SC74_N (SOT23, 6-Leads, Body 2.9x1.6mm, Pitch 0.95mm, IPC Medium Density)
footprint INF-SC74_L (SOT23, 6-Leads, Body 2.9x1.6mm, Pitch 0.95mm, IPC High Density)
footprint INF-SC74_M (SOT23, 6-Leads, Body 2.9x1.6mm, Pitch 0.95mm, IPC Low Density)
part A pins: 1 E1, 2 B1, 6 C1
part B pins: 3 C2, 4 E2, 5 B2

## SMBTA06
designator Q?
NPN Silicon AF Transistor, 80 V VCEO, 500 mA IC, SOT23, Reel, Green; Manufacturer: Infineon; PartNumber: SMBTA06; fT (typ): 100 MHz; Green: TRUE; IBM (max): 200 mA; IC: 100 mA; IC (max): 500 mA; ICBO (max): 100 nA; ICM (max): 1,000 mA; Ptot (max): 330 mW; VCBO (max): 80 V; VCE: 1 V; VEBO (max): 4 V; PackageVersion: Apr-08; PackageReference: SOT23; PackageDescription: 3-Pin Small Outline Transistor Package, 1.3 x 2.9 mm Body, 0.95 mm Pitch; Packing: Reel; Polarity: NPN; VCEO (max): 80 V; Mounting Technology: Surface Mount; ComponentLink1Description: Manufacturer URL; ComponentLink1URL: http://www.infineon.com/; ComponentLink2Description: Datasheet; ComponentLink2URL: http://www.infineon.com/dgdl/smbta06_mmbta06.pdf?folderId=db3a304314dca389011545f4eb561884&fileId=db3a304314dca3890115478ecca71a2d; ComponentLink3Description: Package Specification; ComponentLink3URL: http://www.infineon.com/dgdl/SOT23-Package_Overview.pdf?folderId=db3a30431936bc4b0119532290053c66&fileId=db3a30431936bc4b0119533468123c85
footprint INF-SOT23_N (SOT23, 3-Leads, Body 2.9x1.3 mm, Pitch 0.95 mm, IPC Medium Density)
footprint INF-SOT23_L (SOT23, 3-Leads, Body 2.9x1.3 mm, Pitch 0.95 mm, IPC High Density)
footprint INF-SOT23_M (SOT23, 3-Leads, Body 2.9x1.3 mm, Pitch 0.95 mm, IPC Low Density)
pins: 1 B, 2 E, 3 C

## SMBTA06UPN
designator Q?
NPN / PNP Silicon AF Transistor Array, 80 V VCEO, 500 mA IC, SC74, Reel, Green; Manufacturer: Infineon; PartNumber: SMBTA06UPN; fT (typ): 100 MHz; Green: TRUE; IC: 100 mA; IC (max): 500 mA; ICBO (max): 100 nA; ICM (max): 1,000 mA; Ptot (max): 330 mW; VCBO (max): 80 V; VCE: 1 V; VEBO (max): 4 V; PackageVersion: Apr-08; PackageReference: SC74; PackageDescription: 6-Pin Semiconductor Package, 2.9 x 1.6 mm Body, 0.95 mm Pitch; Supplier 1: Mouser; Supplier Part Number 1: N/A; Packing: Reel; Polarity: NPN/PNP; VCEO (max): 80 V; Mounting Technology: Surface Mount; ComponentLink1Description: Manufacturer URL; ComponentLink1URL: http://www.infineon.com/; ComponentLink2Description: Datasheet; ComponentLink2URL: http://www.infineon.com/dgdl/smbta06upn.pdf?folderId=db3a304314dca389011545f4eb561884&fileId=db3a304314dca38901155fabcd9b1d89; ComponentLink3Description: Package Specification; ComponentLink3URL: http://www.infineon.com/dgdl/SC74-Package_Overview.pdf?folderId=db3a30431936bc4b01194dec844f40d9&fileId=db3a30431936bc4b01195175d46e3ab3
footprint INF-SC74_N (SOT23, 6-Leads, Body 2.9x1.6mm, Pitch 0.95mm, IPC Medium Density)
footprint INF-SC74_L (SOT23, 6-Leads, Body 2.9x1.6mm, Pitch 0.95mm, IPC High Density)
footprint INF-SC74_M (SOT23, 6-Leads, Body 2.9x1.6mm, Pitch 0.95mm, IPC Low Density)
part A pins: 1 E1, 2 B1, 6 C1
part B pins: 3 C2, 4 E2, 5 B2

## SMBTA14
designator Q?
NPN Silicon Darlington Transistor, 30 V VCEO, 300 mA IC, SOT23, Reel, Green; Manufacturer: Infineon; PartNumber: SMBTA14; fT (typ): 125 MHz; Green: TRUE; hFE (min): 10000; IC: 100 mA; IC (max): 300 mA; ICBO (max): 10 uA; ICM (max): 500 mA; VCBO (max): 30 V; VCE: 5 V; VEBO (max): 10 V; PackageVersion: Apr-08; PackageReference: SOT23; PackageDescription: 3-Pin Small Outline Transistor Package, 1.3 x 2.9 mm Body, 0.95 mm Pitch; Packing: Reel; Polarity: NPN; VCEO (max): 30 V; Mounting Technology: Surface Mount; ComponentLink1Description: Manufacturer URL; ComponentLink1URL: http://www.infineon.com/; ComponentLink2Description: Datasheet; ComponentLink2URL: http://www.infineon.com/dgdl/smbta14_mmbta14.pdf?folderId=db3a30431441fb5d011445c30f210183&fileId=db3a30431441fb5d011445ef0201018c; ComponentLink3Description: Package Specification; ComponentLink3URL: http://www.infineon.com/dgdl/SOT23-Package_Overview.pdf?folderId=db3a30431936bc4b0119532290053c66&fileId=db3a30431936bc4b0119533468123c85
footprint INF-SOT23_N (SOT23, 3-Leads, Body 2.9x1.3 mm, Pitch 0.95 mm, IPC Medium Density)
footprint INF-SOT23_L (SOT23, 3-Leads, Body 2.9x1.3 mm, Pitch 0.95 mm, IPC High Density)
footprint INF-SOT23_M (SOT23, 3-Leads, Body 2.9x1.3 mm, Pitch 0.95 mm, IPC Low Density)
pins: 1 B, 2 E, 3 C

## SMBTA42
designator Q?
NPN Silicon High-Voltage Transistor, 300 V VCEO, 500 mA IC, SOT23, Reel, Green; Manufacturer: Infineon; PartNumber: SMBTA42; fT (typ): 70 MHz; Green: TRUE; hFE (min): 40; IC: 30 mA; IC (max): 500 mA; ICBO (max): 100 nA; VCBO (max): 300 V; VCE: 10 V; VEBO (max): 6 V; PackageVersion: Apr-08; PackageReference: SOT23; PackageDescription: 3-Pin Small Outline Transistor Package, 1.3 x 2.9 mm Body, 0.95 mm Pitch; Supplier 1: Mouser; Supplier Part Number 1: N/A; Packing: Reel; Polarity: NPN; VCE (max): 10 V; VCEO (max): 300 V; Mounting Technology: Surface Mount; ComponentLink1Description: Manufacturer URL; ComponentLink1URL: http://www.infineon.com/; ComponentLink2Description: Datasheet; ComponentLink2URL: http://www.infineon.com/dgdl/smbta42_mmbta42.pdf?folderId=db3a30431441fb5d011449af3ad90232&fileId=db3a30431441fb5d011449bfc5760237; ComponentLink3Description: Package Specification; ComponentLink3URL: http://www.infineon.com/dgdl/SOT23-Package_Overview.pdf?folderId=db3a30431936bc4b0119532290053c66&fileId=db3a30431936bc4b0119533468123c85
footprint INF-SOT23_N (SOT23, 3-Leads, Body 2.9x1.3 mm, Pitch 0.95 mm, IPC Medium Density)
footprint INF-SOT23_L (SOT23, 3-Leads, Body 2.9x1.3 mm, Pitch 0.95 mm, IPC High Density)
footprint INF-SOT23_M (SOT23, 3-Leads, Body 2.9x1.3 mm, Pitch 0.95 mm, IPC Low Density)
pins: 1 B, 2 E, 3 C

## SMBTA56
designator Q?
PNP Silicon AF Transistor, 80 V VCEO, 500 mA IC, SOT23, Reel, Green; Manufacturer: Infineon; PartNumber: SMBTA56; fT (typ): 100 MHz; Green: TRUE; IBM (max): 200 mA; IC: 100 mA; IC (max): 500 mA; ICBO (max): 100 nA; ICM (max): 1,000 mA; Ptot (max): 330 mW; VCBO (max): 80 V; VCE: 1 V; VEBO (max): 4 V; PackageVersion: Apr-08; PackageReference: SOT23; PackageDescription: 3-Pin Small Outline Transistor Package, 1.3 x 2.9 mm Body, 0.95 mm Pitch; Packing: Reel; Polarity: PNP; VCEO (max): 80 V; Mounting Technology: Surface Mount; ComponentLink1Description: Manufacturer URL; ComponentLink1URL: http://www.infineon.com/; ComponentLink2Description: Datasheet; ComponentLink2URL: http://www.infineon.com/dgdl/smbta56_mmbta56.pdf?folderId=db3a304314dca389011545f4eb561884&fileId=db3a304314dca38901155fad71671d8c; ComponentLink3Description: Package Specification; ComponentLink3URL: http://www.infineon.com/dgdl/SOT23-Package_Overview.pdf?folderId=db3a30431936bc4b0119532290053c66&fileId=db3a30431936bc4b0119533468123c85
footprint INF-SOT23_N (SOT23, 3-Leads, Body 2.9x1.3 mm, Pitch 0.95 mm, IPC Medium Density)
footprint INF-SOT23_L (SOT23, 3-Leads, Body 2.9x1.3 mm, Pitch 0.95 mm, IPC High Density)
footprint INF-SOT23_M (SOT23, 3-Leads, Body 2.9x1.3 mm, Pitch 0.95 mm, IPC Low Density)
pins: 1 B, 2 E, 3 C

## SMBTA92
designator Q?
PNP Silicon High-Voltage Transistor, 300 V VCEO, 500 mA IC, SOT23, Reel, Green; Manufacturer: Infineon; PartNumber: SMBTA92; fT (typ): 50 MHz; Green: TRUE; hFE (min): 40; IC: 30 mA; IC (max): 500 mA; ICBO (max): 100 nA; VCBO (max): 300 V; VCE: 10 V; VEBO (max): 5 V; PackageVersion: Apr-08; PackageReference: SOT23; PackageDescription: 3-Pin Small Outline Transistor Package, 1.3 x 2.9 mm Body, 0.95 mm Pitch; Packing: Reel; Polarity: PNP; VCE (max): 10 V; VCEO (max): 300 V; Mounting Technology: Surface Mount; ComponentLink1Description: Manufacturer URL; ComponentLink1URL: http://www.infineon.com/; ComponentLink2Description: Datasheet; ComponentLink2URL: http://www.infineon.com/dgdl/smbta92-mmbta92.pdf?folderId=db3a30431441fb5d011449af3ad90232&fileId=db3a30431441fb5d011449c5cd03023b; ComponentLink3Description: Package Specification; ComponentLink3URL: http://www.infineon.com/dgdl/SOT23-Package_Overview.pdf?folderId=db3a30431936bc4b0119532290053c66&fileId=db3a30431936bc4b0119533468123c85
footprint INF-SOT23_N (SOT23, 3-Leads, Body 2.9x1.3 mm, Pitch 0.95 mm, IPC Medium Density)
footprint INF-SOT23_L (SOT23, 3-Leads, Body 2.9x1.3 mm, Pitch 0.95 mm, IPC High Density)
footprint INF-SOT23_M (SOT23, 3-Leads, Body 2.9x1.3 mm, Pitch 0.95 mm, IPC Low Density)
pins: 1 B, 2 E, 3 C